# EAGLE library part 1935200_PHOENIX (library WFR2020)
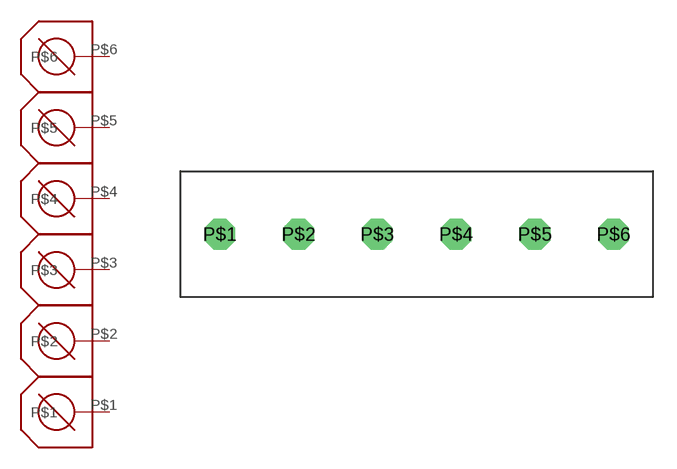
[diagram p9: symbol with the pads of 1777587_FOOT; footprint 1777587_FOOT]

Designator prefix -

## 1935200_PHOENIX  [1777587_FOOT]
P$1  P$1
P$2  P$2
P$3  P$3
P$4  P$4
P$5  P$5
P$6  P$6

## Footprint 1777587_FOOT (pad centres in mm)
drill 1.3 octagon: P$1 0,0; P$2 5,0; P$3 10,0; P$4 15,0; P$5 20,0; P$6 25,0